# Altium schematic symbol library UCC27524DSDR.SchLib: 1 symbol
Pins are listed as number, name and electrical type; pins without a type are passive.

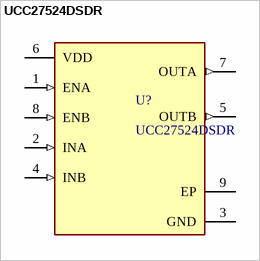
[diagram p0: symbol UCC27524DSDR]

## UCC27524DSDR
designator U?
IC GATE DVR LO-SIDE DL 5A 8SON
footprint FP-DSD0008D-IPC_A
footprint FP-DSD0008D-IPC_B
footprint FP-DSD0008D-IPC_C
pins: 1 ENA (in), 2 INA (in), 3 GND (power), 4 INB (in), 5 OUTB (out), 6 VDD (power), 7 OUTA (out), 8 ENB (in), 9 EP (power)